# EAGLE library part RING-MOD-V2.0 (library XM8)
Xonik Ring Modulator v2.0
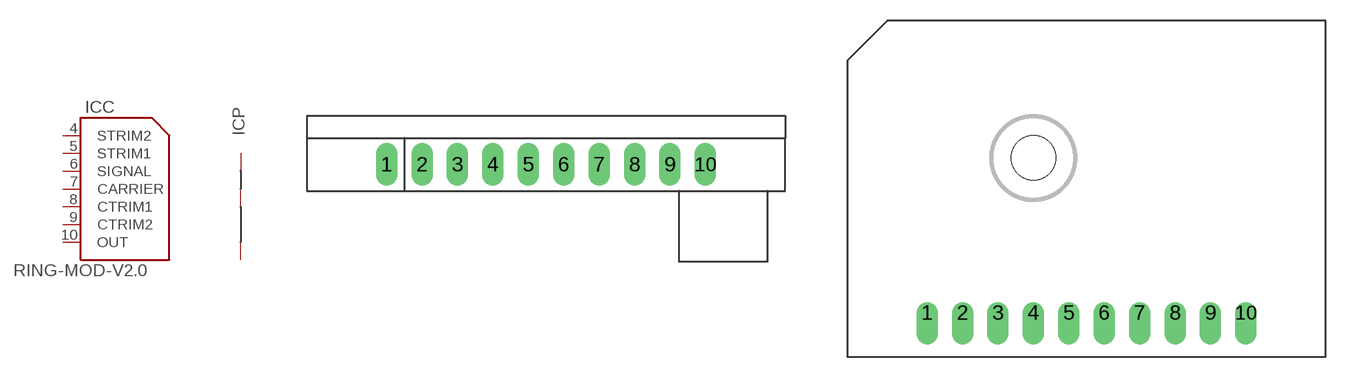
[diagram p7: symbol with the pads of XM8-RING-MOD-V2.0V; footprints XM8-RING-MOD-V2.0V, XM8-RING-MOD-V2.0H]

Designator prefix IC; gates C=XM8-RING-MOD-V2.0 P=XM8-PWR

## RING-MOD-V2.0V  [XM8-RING-MOD-V2.0V]
1  P:+V  pwr
2  P:AGND  pwr
3  P:-V  pwr
4  C:STRIM2
5  C:STRIM1
6  C:SIGNAL
7  C:CARRIER
8  C:CTRIM1
9  C:CTRIM2
10  C:OUT

## RING-MOD-V2.0H  [XM8-RING-MOD-V2.0H]
Pads as for XM8-RING-MOD-V2.0V

## Footprint XM8-RING-MOD-V2.0V (pad centres in mm)
Xonik Ring Modulator v2.0 vertical mount
drill 1.016 long: 1 -11.43,0; 2 -8.89,0; 3 -6.35,0; 4 -3.81,0; 5 -1.27,0; 6 1.27,0; 7 3.81,0; 8 6.35,0; 9 8.89,0; 10 11.43,0

## Footprint XM8-RING-MOD-V2.0H (pad centres in mm)
Xonik Ring Modulator v2.0 horizontal mount
drill 1.016 offset: 1 -11.43,0; 2 -8.89,0; 3 -6.35,0; 4 -3.81,0; 5 -1.27,0; 6 1.27,0; 7 3.81,0; 8 6.35,0; 9 8.89,0; 10 11.43,0
hole 3.2 at -3.81,11.113